# Altium footprint library PCBlib.PcbLib: 34 footprints (part 3 of 3)
Each footprint in its own frame and in the unit in brackets; x right, y up, seen from the top. Pads: shape width x height; smd on the part's side, far side on the other; paste and mask are expansions set on the pad; w line width, h text height; cw(c..) or ccw(c..) is an arc to the next point about the centre after c.
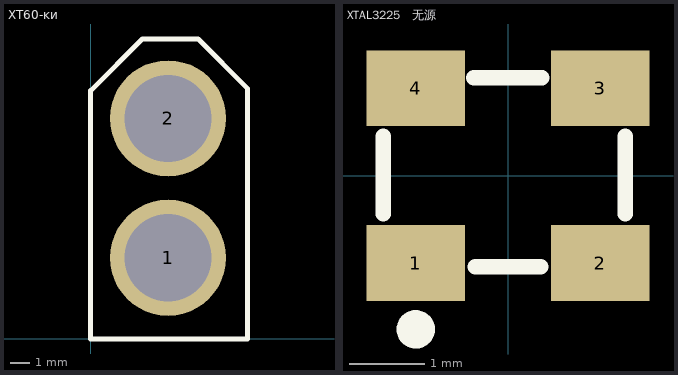
[diagram p2: the footprints below, top view; thin cyan lines are the x and y axes]

## XT60-ĸͷ [mm]
pads (2):
  round 6 hole 4.5: 1(4,4.2) 2(4,11.4)
Top Overlay:
  lines w0.254: 0,12.827 2.667,15.494 2.667,15.5 ; 5.08,15.5 5.554,15.5 ; 2.667,15.5 0,12.833 0,0 8.1,0 8.1,12.954 ; 2.667,15.5 5.554,15.5 ; 5.554,15.5 8.1,12.954 ; 5.554,15.5 8.1,12.954

## XTAL3225   无源 [mm]
pads (4):
  rect 1.3x1 smd: 1(-1.219,-1.156) 2(1.219,-1.156) 3(1.219,1.156) 4(-1.219,1.156)
Top Overlay:
  circle w0.254: c-1.219,-2.032 r0.127
  lines w0.203: -1.651,-0.507 -1.651,0.519 ; -0.452,1.294 0.45,1.294 ; -0.432,-1.207 0.432,-1.207 ; 1.549,-0.506 1.549,0.519